# Altium footprint library 87220-2.PcbLib: 1 footprints
Each footprint in its own frame and in the unit in brackets; x right, y up, seen from the top. Pads: shape width x height; smd on the part's side, far side on the other; paste and mask are expansions set on the pad; w line width, h text height; cw(c..) or ccw(c..) is an arc to the next point about the centre after c.
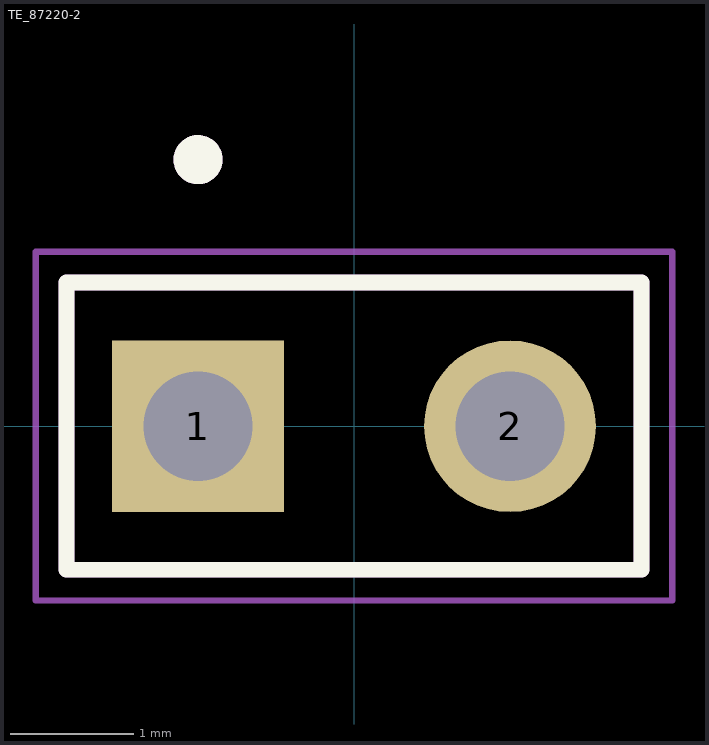
[diagram p0: the footprint, top view; thin cyan lines are the x and y axes]

## TE_87220-2 [mm]
pads (2):
  rect 1.398x1.398 hole 0.89: 1(-1.27,0)
  round 1.398 hole 0.89: 2(1.27,0)
Top Overlay:
  circle w0.2: c-1.27,2.17 r0.1
  lines w0.127: -2.34,-1.17 2.34,-1.17 2.34,1.17 -2.34,1.17 -2.34,-1.17
Mechanical 13:
  circle w0.2: c-1.27,2.17 r0.1
  lines w0.127: -2.34,-1.17 2.34,-1.17 2.34,1.17 -2.34,1.17 -2.34,-1.17
Mechanical 15:
  lines w0.05: -2.59,-1.42 2.59,-1.42 2.59,1.42 -2.59,1.42 -2.59,-1.42
3D body "step_temp.STEP": height 1.17, standoff -1.17, extent -2.337,-8.077 2.337,5.461